# EAGLE library part RINGKERN_25VA (library Trafo)
Ringkerntrafo 2*U, 2*12.5VA
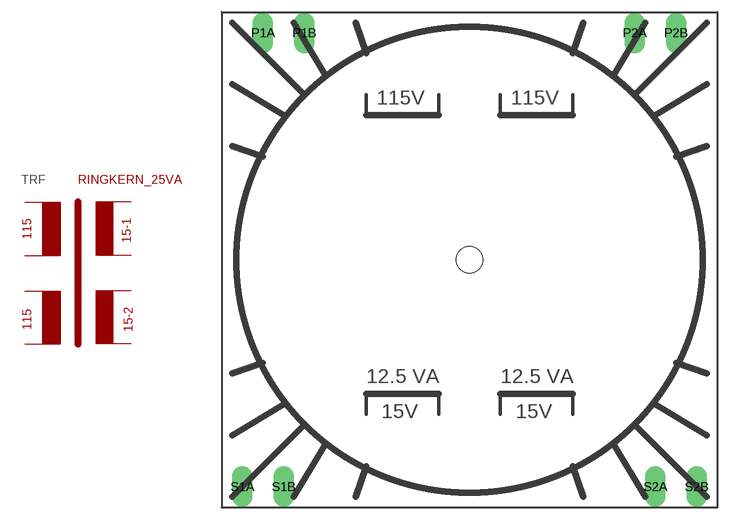
[diagram p5: symbol with the pads of RINGKERN_25VA; footprint RINGKERN_25VA]

Designator prefix TRF

## RINGKERN_25VA  [RINGKERN_25VA]
P1A  P1A
P1B  P1B
P2A  P2A
P2B  P2B
S1A  S1A
S1B  S1B
S2A  S2A
S2B  S2B

## Footprint RINGKERN_25VA (pad centres in mm)
drill 1 pad 2.54 long: P1A -25.4,27.94; P1B -20.32,27.94; P2A 20.32,27.94; P2B 25.4,27.94; S1A -27.94,-27.94; S1B -22.86,-27.94; S2A 22.86,-27.94; S2B 27.94,-27.94
hole 3.2 at 0,0